# Altium footprint library LTC4415EDHCPBF.PcbLib: 1 footprints
Each footprint in its own frame and in the unit in brackets; x right, y up, seen from the top. Pads: shape width x height; smd on the part's side, far side on the other; paste and mask are expansions set on the pad; w line width, h text height; cw(c..) or ccw(c..) is an arc to the next point about the centre after c.
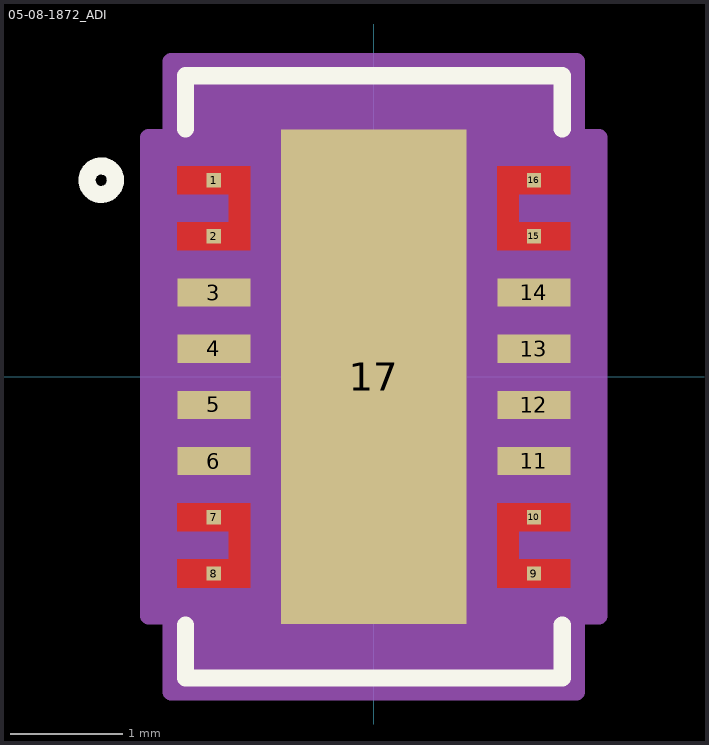
[diagram p0: the footprint, top view; thin cyan lines are the x and y axes]

## 05-08-1872_ADI [mm]
pads (17):
  rect 0.127x0.127 smd paste-0.064 mask-0.064: 1(-1.425,1.75) 2(-1.425,1.25) 7(-1.425,-1.25) 8(-1.425,-1.75) 9(1.425,-1.75) 10(1.425,-1.25) 15(1.425,1.25) 16(1.425,1.75)
  rect 0.65x0.25 smd paste+0 mask+0: 3(-1.425,0.75) 4(-1.425,0.25) 5(-1.425,-0.25) 6(-1.425,-0.75) 11(1.425,-0.75) 12(1.425,-0.25) 13(1.425,0.25) 14(1.425,0.75)
  rect 1.65x4.4 smd paste-0.825 mask+0: 17(0,0)
Top Layer:
  region: 0,2.2
  region: 0,-2.2
  region: 1.29,1.625 1.75,1.625 1.75,1.875 1.1,1.875 1.1,1.125 1.75,1.125 1.75,1.375 1.29,1.375
  region: -1.29,1.375 -1.75,1.375 -1.75,1.125 -1.1,1.125 -1.1,1.875 -1.75,1.875 -1.75,1.625 -1.29,1.625
  region: -1.29,-1.625 -1.75,-1.625 -1.75,-1.875 -1.1,-1.875 -1.1,-1.125 -1.75,-1.125 -1.75,-1.375 -1.29,-1.375
  region: 1.29,-1.375 1.75,-1.375 1.75,-1.125 1.1,-1.125 1.1,-1.875 1.75,-1.875 1.75,-1.625 1.29,-1.625
Top Overlay:
  circle w0.152: c-2.427,1.75 r0.127
  lines w0.152: -1.676,-2.208 -1.676,-2.68 1.676,-2.68 1.676,-2.208 ; -1.676,2.208 -1.676,2.68 1.676,2.68 1.676,2.208
Top Paste:
  region: 0.725,2.1 -0.725,2.1 -0.725,0.833 0.725,0.833
  region: 0.725,0.633 -0.725,0.633 -0.725,-0.633 0.725,-0.633
  region: 0.725,-0.833 -0.725,-0.833 -0.725,-2.1 0.725,-2.1
  region: 1.29,1.625 1.75,1.625 1.75,1.875 1.1,1.875 1.1,1.125 1.75,1.125 1.75,1.375 1.29,1.375
  region: 1.29,-1.375 1.75,-1.375 1.75,-1.125 1.1,-1.125 1.1,-1.875 1.75,-1.875 1.75,-1.625 1.29,-1.625
  region: -1.29,1.375 -1.75,1.375 -1.75,1.125 -1.1,1.125 -1.1,1.875 -1.75,1.875 -1.75,1.625 -1.29,1.625
  region: -1.29,-1.625 -1.75,-1.625 -1.75,-1.875 -1.1,-1.875 -1.1,-1.125 -1.75,-1.125 -1.75,-1.375 -1.29,-1.375
Top Solder:
  region: 0,2.2
  region: 0,-2.2
  region: 1.29,1.625 1.75,1.625 1.75,1.875 1.1,1.875 1.1,1.125 1.75,1.125 1.75,1.375 1.29,1.375
  region: 1.29,-1.375 1.75,-1.375 1.75,-1.125 1.1,-1.125 1.1,-1.875 1.75,-1.875 1.75,-1.625 1.29,-1.625
  region: -1.29,1.375 -1.75,1.375 -1.75,1.125 -1.1,1.125 -1.1,1.875 -1.75,1.875 -1.75,1.625 -1.29,1.625
  region: -1.29,-1.625 -1.75,-1.625 -1.75,-1.875 -1.1,-1.875 -1.1,-1.125 -1.75,-1.125 -1.75,-1.375 -1.29,-1.375
Mechanical 13:
  circle w0: c-1.1,1.75 r0.076
  lines w0: -0.305,2.553 ccw(c0,2.553) 0.305,2.553
  lines w0.025: -1.549,-2.553 1.549,-2.553 1.549,2.553 -1.549,2.553 -1.549,-2.553
Mechanical 15:
  region: -1.803,-2.129 -2.004,-2.129 -2.004,2.129 -1.803,2.129 -1.803,2.807 1.803,2.807 1.803,2.129 2.004,2.129 2.004,-2.129 1.803,-2.129 1.803,-2.807 -1.803,-2.807
  lines w0.152: -2.004,-2.129 -2.004,2.129 -1.803,2.129 -1.803,2.807 1.803,2.807 1.803,2.129 2.004,2.129 2.004,-2.129 1.803,-2.129 1.803,-2.807 -1.803,-2.807 -1.803,-2.129 -2.004,-2.129